# EAGLE library part 2X3_ (library connectors)
HARTING
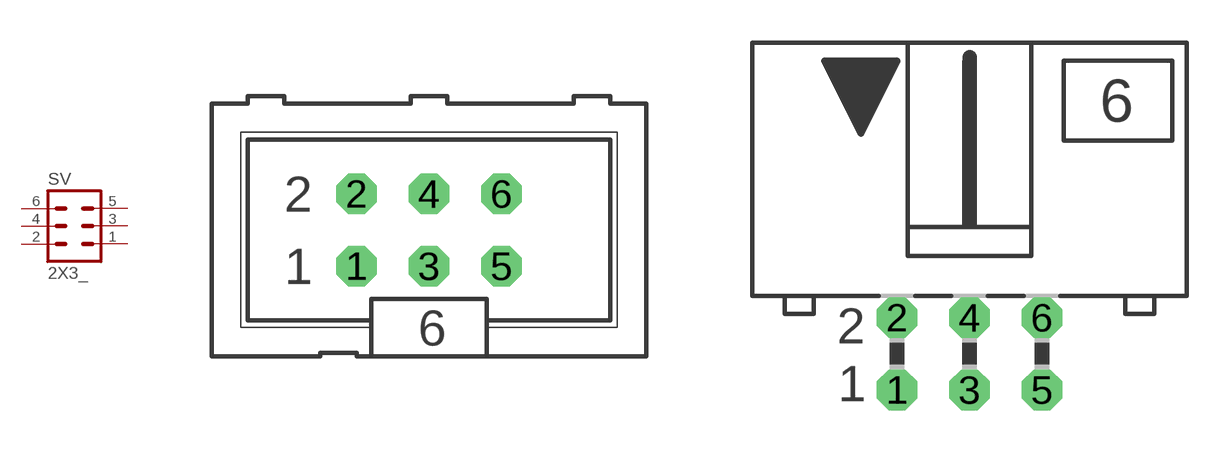
[diagram p2: symbol with the pads of _HARTING_ML6; footprints _HARTING_ML6, _HARTING_ML6L]

Designator prefix SV

## 2X3_ (OC_FARNELL: unknown; OC_NEWARK: unknown)  [_HARTING_ML6]
1  1  pas
2  2  pas
3  3  pas
4  4  pas
5  5  pas
6  6  pas

## 2X3_L (OC_FARNELL: unknown; OC_NEWARK: unknown)  [_HARTING_ML6L]
Pads as for _HARTING_ML6

## Footprint _HARTING_ML6 (pad centres in mm)
HARTING
drill 0.914 octagon: 1 -2.54,-1.27; 2 -2.54,1.27; 3 0,-1.27; 4 0,1.27; 5 2.54,-1.27; 6 2.54,1.27

## Footprint _HARTING_ML6L (pad centres in mm)
HARTING
drill 0.914 octagon: 1 -2.54,-1.27; 2 -2.54,1.27; 3 0,-1.27; 4 0,1.27; 5 2.54,-1.27; 6 2.54,1.27